# EAGLE library part TPS211*A (library ic-TI)
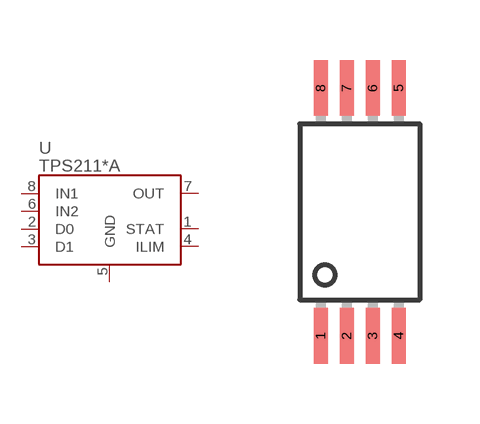
[diagram p12: symbol with the pads of TSSOP8; footprint TSSOP8]

Designator prefix U

## TPS2114APW, TPS2115APW  [TSSOP8]
1  STAT
2  D0
3  D1
4  ILIM
5  GND
6  IN2
7  OUT
8  IN1

## Footprint TSSOP8 (pad centres in mm)
smd 0.35 x 1.4: 1 -0.975,-3.1; 2 -0.325,-3.1; 3 0.325,-3.1; 4 0.975,-3.1; 5 0.975,3.1; 6 0.325,3.1; 7 -0.325,3.1; 8 -0.975,3.1